# EAGLE library part ALPS-RKJXM (library ALPS-RKJXM)
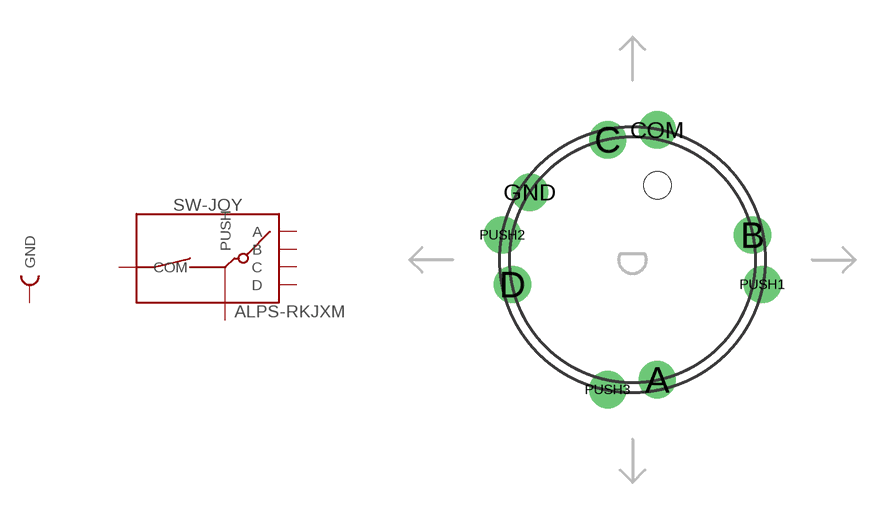
[diagram p0: symbol with the pads of ALPS-RKJXM10; footprint ALPS-RKJXM10]

Designator prefix SW; gates -JOY=CENTER_PUSH_DPAD -MECH=MECHANICAL

## ALPS-RKJXM15004 (MF: ALPS; MPN: RKJXM1015004)  [ALPS-RKJXM10]
A  -JOY:A  pas
B  -JOY:B  pas
C  -JOY:C  pas
COM  -JOY:COM  pas
D  -JOY:D  pas
GND  -MECH:GND  pwr
PUSH1  -JOY:PUSH  pas
PUSH2  -JOY:PUSH  pas
PUSH3  -JOY:PUSH  pas

## Footprint ALPS-RKJXM10 (pad centres in mm)
drill 1: A 1,-4.85; B 4.85,1; C -1,4.85; COM 1,5.25; D -4.85,-1; GND -4.15,2.73; PUSH1 5.25,-1; PUSH2 -5.25,1; PUSH3 -1,-5.25
hole 1.1 at 1,3